# Altium schematic symbol library C0603.Schlib: 1 symbol
Pins are listed as number, name and electrical type; pins without a type are passive.

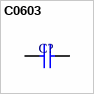
[diagram p0: symbol C0603]

## C0603
designator C?  (value not drawn)
0603 Ceramic Chip Capacitor - Standard
pins: 1, 2